# Altium schematic symbol library PC_TEST_POINT_MINI_SMD_5019.SCHLIB: 1 symbol
Pins are listed as number, name and electrical type; pins without a type are passive.

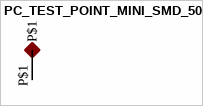
[diagram p0: symbol PC_TEST_POINT_MINI_SMD_5019]

## PC_TEST_POINT_MINI_SMD_5019
designator ?
GateName_1: G$1; SymbolName_1: PC_TEST_POINT_MINI_SMD_5019; LibraryName: PC_TEST_POINT_MINI_SMD_5019; DeviceSetName: PC_TEST_POINT_MINI_SMD_5019; Package: PC_TEST_POINT_SMD
footprint PC_TEST_POINT_SMD
pins: P$1